# Altium schematic symbol library 581-01-60-006.SchLib: 1 symbol
Pins are listed as number, name and electrical type; pins without a type are passive.

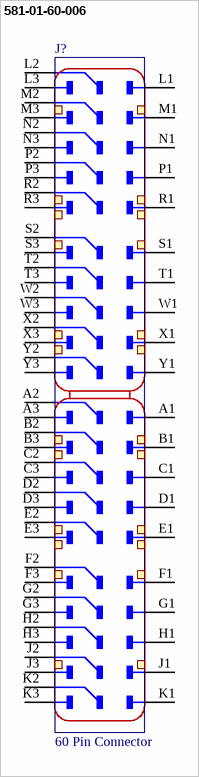
[diagram p0: symbol 581-01-60-006]

## 581-01-60-006
designator J?  Type: 60 Pin Connector  (hidden comment: 581-01-60-006)
CONNECTOR; Manufacturer: Cinch; CMW P/N: 222-1244; Value: 20x3; Supplier 1 Part Number: 26K0880; HelpURL: http://www.cinch.com/products/transportation/15-mm-shs-headers; Manufacturer P/N: 581-01-60-006; Package: PKR/.157/2; Supplier 1: Newark
footprint CONN3x20_PKR (Cinch 60 Pin Connector 581-01-60-001)
pins: A1, A2, A3, B1, B2, B3, C1, C2, C3, D1, D2, D3, E1, E2, E3, F1, F2, F3, G1, G2, G3, H1, H2, H3, J1, J2, J3, K1, K2, K3, L1, L2, L3, M1, M2, M3, N1, N2, N3, P1, P2, P3, R1, R2, R3, S1, S2, S3, T1, T2, T3, W1, W2, W3, X1, X2, X3, Y1, Y2, Y3
1 alternate drawing of the same symbol